# Altium schematic symbol library SCH - DRIVER - LED - TI UCC2889_P_8.SchLib: 1 symbol
Pins are listed as number, name and electrical type; pins without a type are passive.

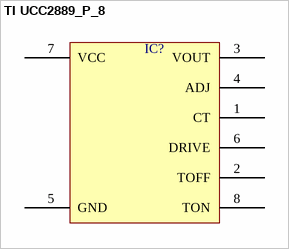
[diagram p0: symbol TI UCC2889_P_8]

## TI UCC2889_P_8
designator IC?  (value not drawn)
pins: 1 CT, 2 TOFF, 3 VOUT, 4 ADJ, 5 GND, 6 DRIVE, 7 VCC, 8 TON